# EAGLE library part JP7QE (library New Stuff)
JUMPER
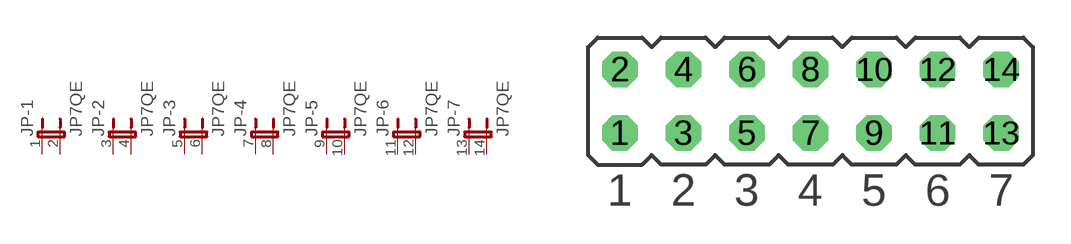
[diagram p4: symbol with the pads of JP7Q; footprint JP7Q]

Designator prefix JP; gates -1=JP2E -2=JP2E -3=JP2E -4=JP2E -5=JP2E -6=JP2E -7=JP2E

## JP7QE  [JP7Q]
1  -1:1  pas
2  -1:2  pas
3  -2:1  pas
4  -2:2  pas
5  -3:1  pas
6  -3:2  pas
7  -4:1  pas
8  -4:2  pas
9  -5:1  pas
10  -5:2  pas
11  -6:1  pas
12  -6:2  pas
13  -7:1  pas
14  -7:2  pas

## Footprint JP7Q (pad centres in mm)
JUMPER
drill 0.914 octagon: 1 -7.62,-1.27; 2 -7.62,1.27; 3 -5.08,-1.27; 4 -5.08,1.27; 5 -2.54,-1.27; 6 -2.54,1.27; 7 0,-1.27; 8 0,1.27; 9 2.54,-1.27; 10 2.54,1.27; 11 5.08,-1.27; 12 5.08,1.27; 13 7.62,-1.27; 14 7.62,1.27